# Altium footprint library Gelnar.PcbLib: 295 footprints (part 9 of 19)
Each footprint in its own frame and in the unit in brackets; x right, y up, seen from the top. Pads: shape width x height; smd on the part's side, far side on the other; paste and mask are expansions set on the pad; w line width, h text height; cw(c..) or ccw(c..) is an arc to the next point about the centre after c.
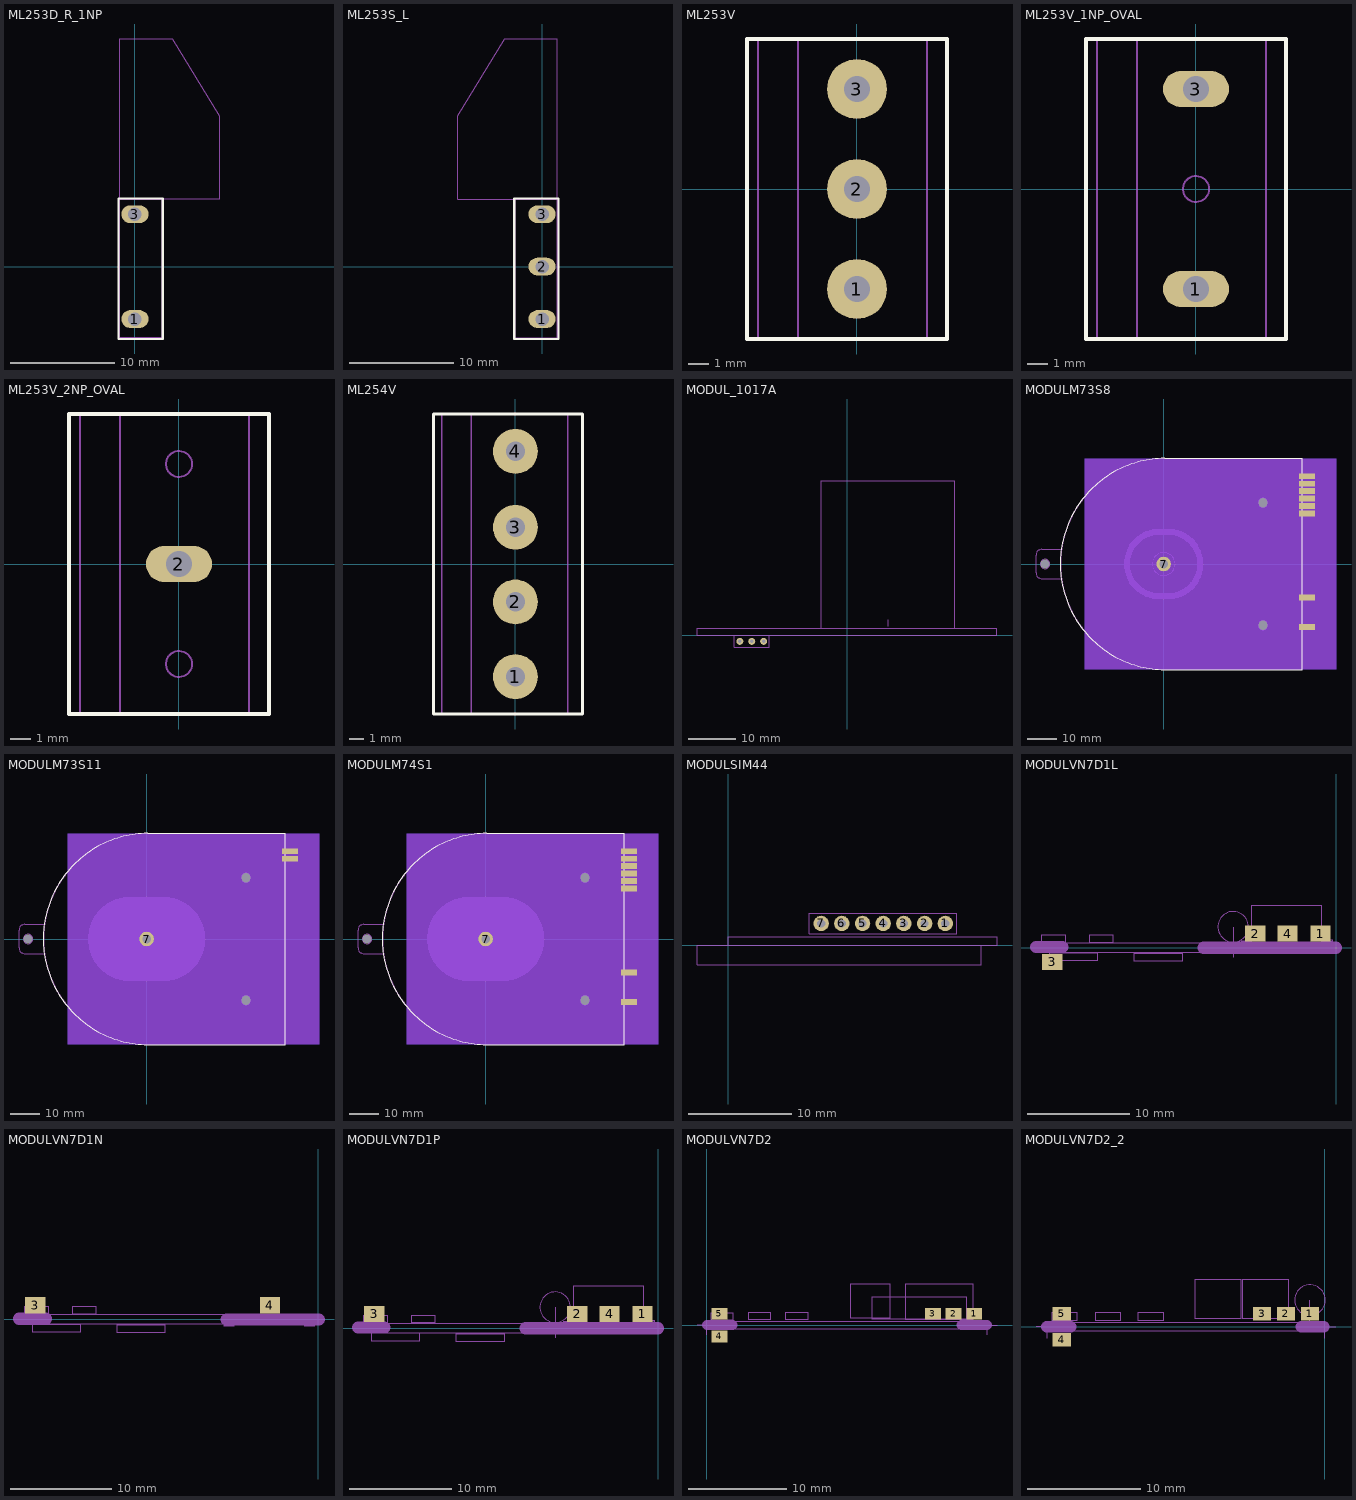
[diagram p8: the footprints below, top view; thin cyan lines are the x and y axes]

## ML253D_R_1NP [mm]
pads (2):
  oval 2.6x1.7 hole 1.3 mask+0.05: 1(0,-5) 3(0,5)
Top Overlay:
  lines w0.2: -1.55,-6.9 2.65,-6.9 2.65,6.5 -1.55,6.5 -1.55,-6.9
Mechanical 15:
  lines w0.1: -1.45,8.3 -1.45,6.4 ; -1.45,6.4 -1.45,-6.8 2.55,-6.8 2.55,6.4 -1.45,6.4 ; -1.45,6.4 -1.45,21.7 3.55,21.7 8.05,14.4 8.05,6.4 -1.45,6.4
Multi-Layer:
  text "Value" at 0.415,12.575 h0.75
Mechanical 20:
  lines w0.1: -1.55,-6.9 2.65,-6.9 2.65,6.5 -1.55,6.5 -1.55,-6.9

## ML253S_L [mm]
pads (3):
  oval 2.6x1.7 hole 1.3 mask+0.05: 1(0,-5) 2(0,0) 3(0,5)
Top Overlay:
  lines w0.2: -2.65,-6.9 -2.65,6.5 1.55,6.5 1.55,-6.9 -2.65,-6.9
Mechanical 15:
  lines w0.1: 1.45,6.4 -8.05,6.4 -8.05,14.4 -3.55,21.7 1.45,21.7 1.45,6.4 ; 1.45,6.4 1.45,-6.8 -2.55,-6.8 -2.55,6.4 1.45,6.4
Multi-Layer:
  text "Value" at -4.3,12.5 h0.75
Mechanical 20:
  lines w0.1: -2.65,-6.9 -2.65,6.5 1.55,6.5 1.55,-6.9 -2.65,-6.9
3D body "ML253-5-S-LC.stp": height 13, standoff -2.2, extent -7.976,-5.715 1.524,21.785

## ML253V [mm]
pads (3):
  round 3 hole 1.3 mask+0.1: 1(0,-5) 2(0,0) 3(0,5)
Top Overlay:
  lines w0.2: -5.5,-7.5 4.5,-7.5 4.5,7.5 -5.5,7.5 -5.5,-7.5
Mechanical 15:
  circle w0.1: c0,0 r0.65
  circle w0.1: c0,-5 r0.65
  circle w0.1: c0,5 r0.65
  lines w0.1: -4.95,-7.4 -4.95,7.5 ; -2.95,-7.5 -2.95,7.4 ; 3.5,-7.45 3.5,7.45 ; -5.5,-7.5 4.5,-7.5 4.5,7.5 -5.5,7.5 -5.5,-7.5
Mechanical 16:
  circle w0.1: c0,5 r0.65
  circle w0.1: c0,0 r0.65
  circle w0.1: c0,-5 r0.65
Multi-Layer:
  text "Value" at -1.19,1.62 h0.75

## ML253V_1NP_OVAL [mm]
pads (2):
  oval 3.3x1.8 hole 1.3 mask+0.05: 1(0,-5) 3(0,5)
Top Overlay:
  lines w0.2: -5.5,-7.5 4.5,-7.5 4.5,7.5 -5.5,7.5 -5.5,-7.5
Mechanical 15:
  circle w0.1: c0,0 r0.65
  circle w0.1: c0,-5 r0.65
  circle w0.1: c0,5 r0.65
  lines w0.1: -4.95,-7.4 -4.95,7.5 ; -2.95,-7.5 -2.95,7.4 ; 3.5,-7.45 3.5,7.45 ; -5.5,-7.5 4.5,-7.5 4.5,7.5 -5.5,7.5 -5.5,-7.5
Mechanical 16:
  circle w0.1: c0,5 r0.65
  circle w0.1: c0,0 r0.65
  circle w0.1: c0,-5 r0.65
Multi-Layer:
  text "Value" at -0.936,1.295 h0.75

## ML253V_2NP_OVAL [mm]
pads (1):
  oval 3.3x1.8 hole 1.3 mask+0.05: 2(0,0)
Top Overlay:
  lines w0.2: -5.5,-7.5 4.5,-7.5 4.5,7.5 -5.5,7.5 -5.5,-7.5
Mechanical 15:
  circle w0.1: c0,0 r0.65
  circle w0.1: c0,-5 r0.65
  circle w0.1: c0,5 r0.65
  lines w0.1: -4.95,-7.4 -4.95,7.5 ; -2.95,-7.5 -2.95,7.4 ; 3.5,-7.45 3.5,7.45 ; -5.5,-7.5 4.5,-7.5 4.5,7.5 -5.5,7.5 -5.5,-7.5
Mechanical 16:
  circle w0.1: c0,5 r0.65
  circle w0.1: c0,0 r0.65
  circle w0.1: c0,-5 r0.65
Multi-Layer:
  text "Value" at -0.936,1.295 h0.75

## ML254V [mm]
pads (4):
  round 3 hole 1.3 mask+0.1: 1(0,-7.54) 2(0,-2.54) 3(0,2.46) 4(0,7.54)
Top Overlay:
  lines w0.2: -5.5,-10.04 4.5,-10.04 4.5,10.04 -5.5,10.04 -5.5,-10.04
Mechanical 15:
  circle w0.1: c0,-2.54 r0.65
  circle w0.1: c0,-7.54 r0.65
  circle w0.1: c0,2.46 r0.65
  lines w0.1: -4.95,-9.94 -4.95,10.04 ; -2.95,-10.04 -2.95,10.04 ; 3.5,-10.04 3.5,10.04 ; -5.5,-10.04 4.5,-10.04 4.5,10.04 -5.5,10.04 -5.5,-10.04
Mechanical 16:
  circle w0.1: c0,2.46 r0.65
  circle w0.1: c0,-2.54 r0.65
  circle w0.1: c0,-7.54 r0.65
Multi-Layer:
  text "Value" at -1.19,-0.92 h0.75

## MODUL_1017A [mm]
pads (3):
  round 1.5 hole 0.8 mask+0.05: 1(-17.78,-1.27) 2(-20.32,-1.27) 3(-22.86,-1.27)
Mechanical 15:
  lines w0.1: -32,0 32,0 32,1.5 -32,1.5 -32,0 ; -24.066,-2.54 -16.637,-2.54 -16.637,0 -24.066,0 -24.066,-2.54 ; -5.487,1.5 23.013,1.5 23.013,33 -5.487,33 -5.487,1.5
Multi-Layer:
  text "Value" at 21.562,0.175 h0.75
Mechanical 19:
  lines w0.1: 8.763,1.905 8.763,3.365

## MODULM73S8 [mm]
pads (12):
  rect 5.5x2 smd mask+0.05: 1(49,17.335) 2(49,19.875) 3(49,22.415) 4(49,24.956) 5(49,27.495) 6(49,30.035) 8(49,-21.59) 9(49,-11.43)
  round 5 / inner round 3 / far side round 5 hole 3: 7(0,0)
  round 0 hole 3.2 unplated: HL1(34,21) HL2(34,-21) HL3(-40.6,0)
L1-Top Layer keep-out:
  region: -25,23 20,23 25,18 25,-18 20,-23 -25,-23
L2-Botom Layer:
  region: -5.5,14.5 5.5,14.511 6.639,14.466 7.77,14.333 8.888,14.11 9.984,13.801 11.053,13.407 12.088,12.93 13.082,12.373 14.029,11.74 14.924,11.034 15.761,10.261 16.534,9.424 17.24,8.529 17.873,7.582 18.43,6.588 18.907,5.553 19.301,4.484 19.61,3.388 19.833,2.27 19.966,1.139 20.011,0 19.966,-1.139 19.833,-2.27 19.61,-3.388 19.301,-4.484 18.907,-5.553 18.43,-6.588 17.873,-7.582 17.24,-8.529 16.534,-9.424 15.761,-10.261 14.924,-11.034 14.029,-11.74 13.082,-12.373 12.088,-12.93 11.053,-13.407 9.984,-13.801 8.888,-14.11 7.77,-14.333 6.639,-14.466 5.5,-14.511 5.5,-14.5 -5.5,-14.511 -6.639,-14.466 -7.77,-14.333 -8.888,-14.11 -9.984,-13.801 -11.053,-13.407 -12.088,-12.93 -13.082,-12.373 -14.029,-11.74 -14.924,-11.034 -15.761,-10.261 -16.534,-9.424 -17.24,-8.529 -17.873,-7.582 -18.43,-6.588 -18.907,-5.553 -19.301,-4.484 -19.61,-3.388 -19.833,-2.27 -19.966,-1.139 -20.011,0 -19.966,1.139 -19.833,2.27 -19.61,3.388 -19.301,4.484 -18.907,5.553 -18.43,6.588 -17.873,7.582 -17.24,8.529 -16.534,9.424 -15.761,10.261 -14.924,11.034 -14.029,11.74 -13.082,12.373 -12.088,12.93 -11.053,13.407 -9.984,13.801 -8.888,14.11 -7.77,14.333 -6.639,14.466 -5.5,14.511
L2-Botom Layer keep-out:
  region: -27,36 59,36 59,-36 -27,-36
  region: 37,-21 37,-20.803 36.949,-20.413 36.847,-20.034 36.696,-19.67 36.5,-19.33 36.26,-19.018 35.982,-18.74 35.67,-18.5 35.33,-18.304 34.966,-18.153 34.587,-18.051 34.197,-18 34,-18 33.803,-18 33.413,-18.051 33.034,-18.153 32.67,-18.304 32.33,-18.5 32.018,-18.74 31.74,-19.018 31.5,-19.33 31.304,-19.67 31.153,-20.034 31.051,-20.413 31,-20.803 31,-21 31,-21.197 31.051,-21.587 31.153,-21.966 31.304,-22.33 31.5,-22.67 31.74,-22.982 32.018,-23.26 32.33,-23.5 32.67,-23.696 33.034,-23.847 33.413,-23.949 33.803,-24 34,-24 34.197,-24 34.587,-23.949 34.966,-23.847 35.33,-23.696 35.67,-23.5 35.982,-23.26 36.26,-22.982 36.5,-22.67 36.696,-22.33 36.847,-21.966 36.949,-21.587 37,-21.197
Top Overlay:
  lines w0.2: 0.298,-36.2 cw(c0.803,0) 0.298,36.2 ; 0.3,-36.2 47.5,-36.2 47.5,36.2 0.3,36.2
Top Solder:
  region: -2.4,12.1 2.397,12.104 2.63,12.094 3.68,11.955 4.714,11.726 5.724,11.408 6.702,11.002 7.642,10.513 8.535,9.944 9.375,9.3 10.156,8.584 10.871,7.803 11.516,6.963 12.085,6.07 12.574,5.131 12.979,4.152 13.298,3.142 13.527,2.108 13.665,1.058 13.712,0 13.665,-1.058 13.527,-2.108 13.298,-3.142 12.979,-4.152 12.574,-5.131 12.085,-6.07 11.516,-6.963 10.871,-7.803 10.156,-8.584 9.375,-9.3 8.535,-9.944 7.642,-10.513 6.702,-11.002 5.724,-11.408 4.714,-11.726 3.68,-11.955 2.63,-12.094 2.397,-12.104 2.4,-12.1 -2.397,-12.104 -2.63,-12.094 -3.68,-11.955 -4.714,-11.726 -5.724,-11.408 -6.702,-11.002 -7.642,-10.513 -8.535,-9.944 -9.375,-9.3 -10.156,-8.584 -10.871,-7.803 -11.516,-6.963 -12.085,-6.07 -12.574,-5.131 -12.979,-4.152 -13.298,-3.142 -13.527,-2.108 -13.665,-1.058 -13.712,0 -13.665,1.058 -13.527,2.108 -13.298,3.142 -12.979,4.152 -12.574,5.131 -12.085,6.07 -11.516,6.963 -10.871,7.803 -10.156,8.584 -9.375,9.3 -8.535,9.944 -7.642,10.513 -6.702,11.002 -5.724,11.408 -4.714,11.726 -3.68,11.955 -2.63,12.094 -2.397,12.104
Bottom Solder:
  region: -5.6,14.6 5.602,14.608 6.646,14.567 7.785,14.432 8.911,14.208 10.015,13.896 11.091,13.499 12.133,13.019 13.134,12.458 14.088,11.821 14.989,11.111 15.832,10.332 16.61,9.489 17.321,8.588 17.958,7.635 18.519,6.634 18.999,5.592 19.396,4.515 19.708,3.411 19.931,2.286 20.066,1.146 20.111,0 20.066,-1.146 19.931,-2.286 19.708,-3.411 19.396,-4.515 18.999,-5.592 18.519,-6.634 17.958,-7.635 17.321,-8.588 16.61,-9.489 15.832,-10.332 14.989,-11.111 14.088,-11.821 13.134,-12.458 12.133,-13.019 11.091,-13.499 10.015,-13.896 8.911,-14.208 7.785,-14.432 6.646,-14.567 5.602,-14.608 5.6,-14.6 -5.602,-14.608 -6.646,-14.567 -7.785,-14.432 -8.911,-14.208 -10.015,-13.896 -11.091,-13.499 -12.133,-13.019 -13.134,-12.458 -14.088,-11.821 -14.989,-11.111 -15.832,-10.332 -16.61,-9.489 -17.321,-8.588 -17.958,-7.635 -18.519,-6.634 -18.999,-5.592 -19.396,-4.515 -19.708,-3.411 -19.931,-2.286 -20.066,-1.146 -20.111,0 -20.066,1.146 -19.931,2.286 -19.708,3.411 -19.396,4.515 -18.999,5.592 -18.519,6.634 -17.958,7.635 -17.321,8.588 -16.61,9.489 -15.832,10.332 -14.989,11.111 -14.088,11.821 -13.134,12.458 -12.133,13.019 -11.091,13.499 -10.015,13.896 -8.911,14.208 -7.785,14.432 -6.646,14.567 -5.602,14.608
Mechanical 15:
  circle w0.1: c-40.6,0 r1.6
  circle w0.1: c34,-21 r1.6
  circle w0.1: c34,21 r1.6
  lines w0.1: -43.7,-3 -43.7,3 ; -43.7,-2.999 ccw(c-41.75,-3.05) -41.702,-5 ; -43.7,3.002 cw(c-41.75,3.05) -41.699,5 ; -41.7,-5 -34.7,-5 ; -41.7,5 -34.7,5 ; -2.009,-11.9 cw(c-1.593,0) -1.988,11.9 ; -2,-11.9 2,-11.9 ; -2,11.9 2,11.9 ; 0.3,-36.1 47.4,-36.1 47.4,36.1 0.3,36.1 ; 0.304,-36.1 cw(c0.808,0) 0.304,36.1 ; 1.988,-11.9 ccw(c1.593,0) 2.009,11.9
Mechanical 16:
  circle w0.1: c-40.6,0 r1.6
  circle w0.1: c34,-21 r1.6
  circle w0.1: c34,21 r1.6
  lines w0.1: -2.009,-11.9 cw(c-1.593,0) -1.988,11.9 ; -2,-11.9 2,-11.9 ; -2,11.9 2,11.9 ; 1.988,-11.9 ccw(c1.593,0) 2.009,11.9
  lines w2: -2.011,10.9 ccw(c-1.592,0) -1.992,-10.9 ; -2,-10.9 2,-10.9 ; -2,10.9 2,10.9 ; 1.993,10.9 cw(c1.593,0) 2.012,-10.9
Multi-Layer:
  text "Value" at 23.865,-2.225 h0.75
Mechanical 19:
  lines w0.1: -1.016,0 0,0 0,-1.016
Mechanical 20:
  circle w0.1: c0,0 r3.9
3D body "011 Krab snimace leden 2021 uprava.stp": height 20.7, standoff -0.1, extent -43.627,-36.133 47.334,36.09

## MODULM73S11 [mm]
pads (6):
  rect 5.5x2 smd mask+0.05: 1(49,27.495) 2(49,30.035)
  round 5 / inner round 3 / far side round 5 hole 3: 7(0,0)
  round 0 hole 3.2 unplated: HL1(34,21) HL2(34,-21) HL3(-40.6,0)
L1-Top Layer keep-out:
  region: -25,23 20,23 25,18 25,-18 20,-23 -25,-23
L2-Botom Layer keep-out:
  region: 37,-21 37,-20.803 36.949,-20.413 36.847,-20.034 36.696,-19.67 36.5,-19.33 36.26,-19.018 35.982,-18.74 35.67,-18.5 35.33,-18.304 34.966,-18.153 34.587,-18.051 34.197,-18 34,-18 33.803,-18 33.413,-18.051 33.034,-18.153 32.67,-18.304 32.33,-18.5 32.018,-18.74 31.74,-19.018 31.5,-19.33 31.304,-19.67 31.153,-20.034 31.051,-20.413 31,-20.803 31,-21 31,-21.197 31.051,-21.587 31.153,-21.966 31.304,-22.33 31.5,-22.67 31.74,-22.982 32.018,-23.26 32.33,-23.5 32.67,-23.696 33.034,-23.847 33.413,-23.949 33.803,-24 34,-24 34.197,-24 34.587,-23.949 34.966,-23.847 35.33,-23.696 35.67,-23.5 35.982,-23.26 36.26,-22.982 36.5,-22.67 36.696,-22.33 36.847,-21.966 36.949,-21.587 37,-21.197
  region: -27,36 59,36 59,-36 -27,-36
Top Overlay:
  lines w0.2: 0.298,-36.2 cw(c0.803,0) 0.298,36.2 ; 0.3,-36.2 47.5,-36.2 47.5,36.2 0.3,36.2
Top Solder:
  region: -2.4,12.1 2.397,12.104 2.63,12.094 3.68,11.955 4.714,11.726 5.724,11.408 6.702,11.002 7.642,10.513 8.535,9.944 9.375,9.3 10.156,8.584 10.871,7.803 11.516,6.963 12.085,6.07 12.574,5.131 12.979,4.152 13.298,3.142 13.527,2.108 13.665,1.058 13.712,0 13.665,-1.058 13.527,-2.108 13.298,-3.142 12.979,-4.152 12.574,-5.131 12.085,-6.07 11.516,-6.963 10.871,-7.803 10.156,-8.584 9.375,-9.3 8.535,-9.944 7.642,-10.513 6.702,-11.002 5.724,-11.408 4.714,-11.726 3.68,-11.955 2.63,-12.094 2.397,-12.104 2.4,-12.1 -2.397,-12.104 -2.63,-12.094 -3.68,-11.955 -4.714,-11.726 -5.724,-11.408 -6.702,-11.002 -7.642,-10.513 -8.535,-9.944 -9.375,-9.3 -10.156,-8.584 -10.871,-7.803 -11.516,-6.963 -12.085,-6.07 -12.574,-5.131 -12.979,-4.152 -13.298,-3.142 -13.527,-2.108 -13.665,-1.058 -13.712,0 -13.665,1.058 -13.527,2.108 -13.298,3.142 -12.979,4.152 -12.574,5.131 -12.085,6.07 -11.516,6.963 -10.871,7.803 -10.156,8.584 -9.375,9.3 -8.535,9.944 -7.642,10.513 -6.702,11.002 -5.724,11.408 -4.714,11.726 -3.68,11.955 -2.63,12.094 -2.397,12.104
Bottom Solder:
  region: -5.6,14.6 5.602,14.608 6.646,14.567 7.785,14.432 8.911,14.208 10.015,13.896 11.091,13.499 12.133,13.019 13.134,12.458 14.088,11.821 14.989,11.111 15.832,10.332 16.61,9.489 17.321,8.588 17.958,7.635 18.519,6.634 18.999,5.592 19.396,4.515 19.708,3.411 19.931,2.286 20.066,1.146 20.111,0 20.066,-1.146 19.931,-2.286 19.708,-3.411 19.396,-4.515 18.999,-5.592 18.519,-6.634 17.958,-7.635 17.321,-8.588 16.61,-9.489 15.832,-10.332 14.989,-11.111 14.088,-11.821 13.134,-12.458 12.133,-13.019 11.091,-13.499 10.015,-13.896 8.911,-14.208 7.785,-14.432 6.646,-14.567 5.602,-14.608 5.6,-14.6 -5.602,-14.608 -6.646,-14.567 -7.785,-14.432 -8.911,-14.208 -10.015,-13.896 -11.091,-13.499 -12.133,-13.019 -13.134,-12.458 -14.088,-11.821 -14.989,-11.111 -15.832,-10.332 -16.61,-9.489 -17.321,-8.588 -17.958,-7.635 -18.519,-6.634 -18.999,-5.592 -19.396,-4.515 -19.708,-3.411 -19.931,-2.286 -20.066,-1.146 -20.111,0 -20.066,1.146 -19.931,2.286 -19.708,3.411 -19.396,4.515 -18.999,5.592 -18.519,6.634 -17.958,7.635 -17.321,8.588 -16.61,9.489 -15.832,10.332 -14.989,11.111 -14.088,11.821 -13.134,12.458 -12.133,13.019 -11.091,13.499 -10.015,13.896 -8.911,14.208 -7.785,14.432 -6.646,14.567 -5.602,14.608
Mechanical 4:
  region: -5.5,14.5 5.5,14.511 6.639,14.466 7.77,14.333 8.888,14.11 9.984,13.801 11.053,13.407 12.088,12.93 13.082,12.373 14.029,11.74 14.924,11.034 15.761,10.261 16.534,9.424 17.24,8.529 17.873,7.582 18.43,6.588 18.907,5.553 19.301,4.484 19.61,3.388 19.833,2.27 19.966,1.139 20.011,0 19.966,-1.139 19.833,-2.27 19.61,-3.388 19.301,-4.484 18.907,-5.553 18.43,-6.588 17.873,-7.582 17.24,-8.529 16.534,-9.424 15.761,-10.261 14.924,-11.034 14.029,-11.74 13.082,-12.373 12.088,-12.93 11.053,-13.407 9.984,-13.801 8.888,-14.11 7.77,-14.333 6.639,-14.466 5.5,-14.511 5.5,-14.5 -5.5,-14.511 -6.639,-14.466 -7.77,-14.333 -8.888,-14.11 -9.984,-13.801 -11.053,-13.407 -12.088,-12.93 -13.082,-12.373 -14.029,-11.74 -14.924,-11.034 -15.761,-10.261 -16.534,-9.424 -17.24,-8.529 -17.873,-7.582 -18.43,-6.588 -18.907,-5.553 -19.301,-4.484 -19.61,-3.388 -19.833,-2.27 -19.966,-1.139 -20.011,0 -19.966,1.139 -19.833,2.27 -19.61,3.388 -19.301,4.484 -18.907,5.553 -18.43,6.588 -17.873,7.582 -17.24,8.529 -16.534,9.424 -15.761,10.261 -14.924,11.034 -14.029,11.74 -13.082,12.373 -12.088,12.93 -11.053,13.407 -9.984,13.801 -8.888,14.11 -7.77,14.333 -6.639,14.466 -5.5,14.511
Mechanical 15:
  circle w0.1: c34,21 r1.6
  circle w0.1: c34,-21 r1.6
  circle w0.1: c-40.6,0 r1.6
  lines w0.1: -43.7,-3 -43.7,3 ; -43.7,-2.999 ccw(c-41.75,-3.05) -41.702,-5 ; -43.7,3.002 cw(c-41.75,3.05) -41.699,5 ; -41.7,-5 -34.7,-5 ; -41.7,5 -34.7,5 ; -2.009,-11.9 cw(c-1.593,0) -1.988,11.9 ; -2,-11.9 2,-11.9 ; -2,11.9 2,11.9 ; 0.3,-36.1 47.4,-36.1 47.4,36.1 0.3,36.1 ; 0.304,-36.1 cw(c0.808,0) 0.304,36.1 ; 1.988,-11.9 ccw(c1.593,0) 2.009,11.9
Mechanical 16:
  circle w0.1: c34,21 r1.6
  circle w0.1: c34,-21 r1.6
  circle w0.1: c-40.6,0 r1.6
  lines w0.1: -2.009,-11.9 cw(c-1.593,0) -1.988,11.9 ; -2,-11.9 2,-11.9 ; -2,11.9 2,11.9 ; 1.988,-11.9 ccw(c1.593,0) 2.009,11.9
  lines w2: -2.011,10.9 ccw(c-1.592,0) -1.992,-10.9 ; -2,-10.9 2,-10.9 ; -2,10.9 2,10.9 ; 1.993,10.9 cw(c1.593,0) 2.012,-10.9
Mechanical 19:
  lines w0.1: -1.016,0 0,0 0,-1.016
Mechanical 20:
  circle w0.1: c0,0 r3.9
3D body "011 Krab snimace leden 2021 uprava.stp": height 20.7, standoff -0.1, extent -43.627,-36.133 47.334,36.09

## MODULM74S1 [mm]
pads (12):
  rect 5.5x2 smd mask+0.05: 1(49,17.335) 2(49,19.875) 3(49,22.415) 4(49,24.956) 5(49,27.495) 6(49,30.035) 8(49,-21.59) 9(49,-11.43)
  round 5 / inner round 3 / far side round 5 hole 3: 7(0,0)
  round 0 hole 3.2 unplated: HL1(34,21) HL2(34,-21) HL3(-40.6,0)
L1-Top Layer keep-out:
  region: -25,23 20,23 25,18 25,-18 20,-23 -25,-23
L2-Botom Layer keep-out:
  region: -27,36 59,36 59,-36 -27,-36
  region: 37,-21 37,-20.803 36.949,-20.413 36.847,-20.034 36.696,-19.67 36.5,-19.33 36.26,-19.018 35.982,-18.74 35.67,-18.5 35.33,-18.304 34.966,-18.153 34.587,-18.051 34.197,-18 34,-18 33.803,-18 33.413,-18.051 33.034,-18.153 32.67,-18.304 32.33,-18.5 32.018,-18.74 31.74,-19.018 31.5,-19.33 31.304,-19.67 31.153,-20.034 31.051,-20.413 31,-20.803 31,-21 31,-21.197 31.051,-21.587 31.153,-21.966 31.304,-22.33 31.5,-22.67 31.74,-22.982 32.018,-23.26 32.33,-23.5 32.67,-23.696 33.034,-23.847 33.413,-23.949 33.803,-24 34,-24 34.197,-24 34.587,-23.949 34.966,-23.847 35.33,-23.696 35.67,-23.5 35.982,-23.26 36.26,-22.982 36.5,-22.67 36.696,-22.33 36.847,-21.966 36.949,-21.587 37,-21.197
Top Overlay:
  lines w0.2: 0.298,-36.2 cw(c0.803,0) 0.298,36.2 ; 0.3,-36.2 47.5,-36.2 47.5,36.2 0.3,36.2
Top Solder:
  region: -2.4,12.1 2.397,12.104 2.63,12.094 3.68,11.955 4.714,11.726 5.724,11.408 6.702,11.002 7.642,10.513 8.535,9.944 9.375,9.3 10.156,8.584 10.871,7.803 11.516,6.963 12.085,6.07 12.574,5.131 12.979,4.152 13.298,3.142 13.527,2.108 13.665,1.058 13.712,0 13.665,-1.058 13.527,-2.108 13.298,-3.142 12.979,-4.152 12.574,-5.131 12.085,-6.07 11.516,-6.963 10.871,-7.803 10.156,-8.584 9.375,-9.3 8.535,-9.944 7.642,-10.513 6.702,-11.002 5.724,-11.408 4.714,-11.726 3.68,-11.955 2.63,-12.094 2.397,-12.104 2.4,-12.1 -2.397,-12.104 -2.63,-12.094 -3.68,-11.955 -4.714,-11.726 -5.724,-11.408 -6.702,-11.002 -7.642,-10.513 -8.535,-9.944 -9.375,-9.3 -10.156,-8.584 -10.871,-7.803 -11.516,-6.963 -12.085,-6.07 -12.574,-5.131 -12.979,-4.152 -13.298,-3.142 -13.527,-2.108 -13.665,-1.058 -13.712,0 -13.665,1.058 -13.527,2.108 -13.298,3.142 -12.979,4.152 -12.574,5.131 -12.085,6.07 -11.516,6.963 -10.871,7.803 -10.156,8.584 -9.375,9.3 -8.535,9.944 -7.642,10.513 -6.702,11.002 -5.724,11.408 -4.714,11.726 -3.68,11.955 -2.63,12.094 -2.397,12.104
Bottom Solder:
  region: -5.6,14.6 5.602,14.608 6.646,14.567 7.785,14.432 8.911,14.208 10.015,13.896 11.091,13.499 12.133,13.019 13.134,12.458 14.088,11.821 14.989,11.111 15.832,10.332 16.61,9.489 17.321,8.588 17.958,7.635 18.519,6.634 18.999,5.592 19.396,4.515 19.708,3.411 19.931,2.286 20.066,1.146 20.111,0 20.066,-1.146 19.931,-2.286 19.708,-3.411 19.396,-4.515 18.999,-5.592 18.519,-6.634 17.958,-7.635 17.321,-8.588 16.61,-9.489 15.832,-10.332 14.989,-11.111 14.088,-11.821 13.134,-12.458 12.133,-13.019 11.091,-13.499 10.015,-13.896 8.911,-14.208 7.785,-14.432 6.646,-14.567 5.602,-14.608 5.6,-14.6 -5.602,-14.608 -6.646,-14.567 -7.785,-14.432 -8.911,-14.208 -10.015,-13.896 -11.091,-13.499 -12.133,-13.019 -13.134,-12.458 -14.088,-11.821 -14.989,-11.111 -15.832,-10.332 -16.61,-9.489 -17.321,-8.588 -17.958,-7.635 -18.519,-6.634 -18.999,-5.592 -19.396,-4.515 -19.708,-3.411 -19.931,-2.286 -20.066,-1.146 -20.111,0 -20.066,1.146 -19.931,2.286 -19.708,3.411 -19.396,4.515 -18.999,5.592 -18.519,6.634 -17.958,7.635 -17.321,8.588 -16.61,9.489 -15.832,10.332 -14.989,11.111 -14.088,11.821 -13.134,12.458 -12.133,13.019 -11.091,13.499 -10.015,13.896 -8.911,14.208 -7.785,14.432 -6.646,14.567 -5.602,14.608
Mechanical 4:
  region: -5.5,14.5 5.5,14.511 6.639,14.466 7.77,14.333 8.888,14.11 9.984,13.801 11.053,13.407 12.088,12.93 13.082,12.373 14.029,11.74 14.924,11.034 15.761,10.261 16.534,9.424 17.24,8.529 17.873,7.582 18.43,6.588 18.907,5.553 19.301,4.484 19.61,3.388 19.833,2.27 19.966,1.139 20.011,0 19.966,-1.139 19.833,-2.27 19.61,-3.388 19.301,-4.484 18.907,-5.553 18.43,-6.588 17.873,-7.582 17.24,-8.529 16.534,-9.424 15.761,-10.261 14.924,-11.034 14.029,-11.74 13.082,-12.373 12.088,-12.93 11.053,-13.407 9.984,-13.801 8.888,-14.11 7.77,-14.333 6.639,-14.466 5.5,-14.511 5.5,-14.5 -5.5,-14.511 -6.639,-14.466 -7.77,-14.333 -8.888,-14.11 -9.984,-13.801 -11.053,-13.407 -12.088,-12.93 -13.082,-12.373 -14.029,-11.74 -14.924,-11.034 -15.761,-10.261 -16.534,-9.424 -17.24,-8.529 -17.873,-7.582 -18.43,-6.588 -18.907,-5.553 -19.301,-4.484 -19.61,-3.388 -19.833,-2.27 -19.966,-1.139 -20.011,0 -19.966,1.139 -19.833,2.27 -19.61,3.388 -19.301,4.484 -18.907,5.553 -18.43,6.588 -17.873,7.582 -17.24,8.529 -16.534,9.424 -15.761,10.261 -14.924,11.034 -14.029,11.74 -13.082,12.373 -12.088,12.93 -11.053,13.407 -9.984,13.801 -8.888,14.11 -7.77,14.333 -6.639,14.466 -5.5,14.511
Mechanical 15:
  circle w0.1: c-40.6,0 r1.6
  circle w0.1: c34,-21 r1.6
  circle w0.1: c34,21 r1.6
  lines w0.1: -43.7,-3 -43.7,3 ; -43.7,-2.999 ccw(c-41.75,-3.05) -41.702,-5 ; -43.7,3.002 cw(c-41.75,3.05) -41.699,5 ; -41.7,-5 -34.7,-5 ; -41.7,5 -34.7,5 ; -2.009,-11.9 cw(c-1.593,0) -1.988,11.9 ; -2,-11.9 2,-11.9 ; -2,11.9 2,11.9 ; 0.3,-36.1 47.4,-36.1 47.4,36.1 0.3,36.1 ; 0.304,-36.1 cw(c0.808,0) 0.304,36.1 ; 1.988,-11.9 ccw(c1.593,0) 2.009,11.9
Mechanical 16:
  circle w0.1: c-40.6,0 r1.6
  circle w0.1: c34,-21 r1.6
  circle w0.1: c34,21 r1.6
  lines w0.1: -2.009,-11.9 cw(c-1.593,0) -1.988,11.9 ; -2,-11.9 2,-11.9 ; -2,11.9 2,11.9 ; 1.988,-11.9 ccw(c1.593,0) 2.009,11.9
  lines w2: -2.011,10.9 ccw(c-1.592,0) -1.992,-10.9 ; -2,-10.9 2,-10.9 ; -2,10.9 2,10.9 ; 1.993,10.9 cw(c1.593,0) 2.012,-10.9
Mechanical 19:
  lines w0.1: -1.016,0 0,0 0,-1.016
Mechanical 20:
  circle w0.1: c0,0 r3.9
3D body "011 Krab snimace leden 2021 uprava.stp": height 20.7, standoff -0.1, extent -43.627,-36.133 47.334,36.09

## MODULSIM44 [mm]
pads (7):
  round 1.5 hole 0.8 mask+0.05: 1(21,2.1) 2(19,2.1) 3(17,2.1) 4(15,2.1) 5(13,2.1) 6(11,2.1) 7(9,2.1)
Mechanical 15:
  lines w0.1: -3,-1.9 24.5,-1.9 24.5,0 -3,0 -3,-1.9 ; 0,0 26,0 26,0.8 0,0.8 0,0
Mechanical 16:
  lines w0.1: 7.85,1.1 22.1,1.1 22.1,3.1 7.85,3.1 7.85,1.1
Multi-Layer:
  text "Value" at 21.562,0.175 h0.75

## MODULVN7D1L [mm]
pads (4):
  rect 2x1.6 smd mask+0.05: 1(-1.524,1.397) 2(-7.918,1.397) 3(-27.877,-1.397) 4(-4.763,1.397)
Mechanical 15:
  circle w0.1: c-10.1,2.054 r1.5
  lines w0.1: -10.096,-0.953 -10.096,2.032 ; -29.4,-0.5 0,-0.5 0,0.5 -29.4,0.5 -29.4,-0.5 ; -28.892,0.508 -26.604,0.508 -26.604,1.27 -28.892,1.27 -28.892,0.508 ; -28.13,-1.27 -23.43,-1.27 -23.43,-0.47 -28.13,-0.47 -28.13,-1.27 ; -24.194,0.508 -21.905,0.508 -21.905,1.27 -24.194,1.27 -24.194,0.508 ; -19.812,-1.333 -15.112,-1.333 -15.112,-0.533 -19.812,-0.533 -19.812,-1.333 ; -9.271,0.508 -8.319,0.508 -8.319,0.699 -9.271,0.699 -9.271,0.508 ; -8.3,0.586 -1.4,0.586 -1.4,4.112 -8.3,4.112 -8.3,0.586 ; -1.333,0.572 -0.381,0.572 -0.381,0.762 -1.333,0.762 -1.333,0.572
Mechanical 16:
  lines w1.2: -29.464,0.064 -26.868,0.064 ; -13.018,0 0,0

## MODULVN7D1N [mm]
pads (2):
  rect 2x1.6 smd mask+0.05: 3(-27.877,1.397) 4(-4.763,1.397)
Mechanical 15:
  lines w0.1: -29.4,-0.5 0,-0.5 0,0.5 -29.4,0.5 -29.4,-0.5 ; -28.892,0.508 -26.604,0.508 -26.604,1.27 -28.892,1.27 -28.892,0.508 ; -28.13,-1.27 -23.43,-1.27 -23.43,-0.47 -28.13,-0.47 -28.13,-1.27 ; -24.194,0.508 -21.905,0.508 -21.905,1.27 -24.194,1.27 -24.194,0.508 ; -19.812,-1.333 -15.112,-1.333 -15.112,-0.533 -19.812,-0.533 -19.812,-1.333 ; -9.271,-0.699 -8.319,-0.699 -8.319,-0.508 -9.271,-0.508 -9.271,-0.699 ; -1.333,-0.699 -0.381,-0.699 -0.381,-0.508 -1.333,-0.508 -1.333,-0.699
Mechanical 16:
  lines w1.2: -29.464,0.064 -26.812,0.064 ; -9.017,0 0.064,0

## MODULVN7D1P [mm]
pads (4):
  rect 2x1.6 smd mask+0.05: 1(-1.524,1.397) 2(-7.918,1.397) 3(-27.877,1.397) 4(-4.763,1.397)
Mechanical 15:
  circle w0.1: c-10.1,2.054 r1.5
  lines w0.1: -10.096,-0.953 -10.096,2.032 ; -29.4,-0.5 0,-0.5 0,0.5 -29.4,0.5 -29.4,-0.5 ; -28.892,0.508 -26.604,0.508 -26.604,1.27 -28.892,1.27 -28.892,0.508 ; -28.13,-1.27 -23.43,-1.27 -23.43,-0.47 -28.13,-0.47 -28.13,-1.27 ; -24.194,0.508 -21.905,0.508 -21.905,1.27 -24.194,1.27 -24.194,0.508 ; -19.812,-1.333 -15.112,-1.333 -15.112,-0.533 -19.812,-0.533 -19.812,-1.333 ; -9.271,0.508 -8.319,0.508 -8.319,0.699 -9.271,0.699 -9.271,0.508 ; -8.3,0.586 -1.4,0.586 -1.4,4.112 -8.3,4.112 -8.3,0.586 ; -1.333,0.572 -0.381,0.572 -0.381,0.762 -1.333,0.762 -1.333,0.572
Mechanical 16:
  lines w1.2: -29.464,0.064 -26.868,0.064 ; -13.018,0 0,0

## MODULVN7D2 [mm]
pads (5):
  rect 1.6x1.2 smd mask+0.05: 1(27.1,1.15) 2(25,1.15) 3(22.9,1.15) 4(1.27,-1.15) 5(1.27,1.15)
Mechanical 15:
  lines w0.1: 0,-0.4 28.4,-0.4 28.4,0.4 0,0.4 0,-0.4 ; 0.45,0.508 2.6,0.508 2.6,1.27 0.45,1.27 0.45,0.508 ; 4.25,0.516 6.4,0.516 6.4,1.278 4.25,1.278 4.25,0.516 ; 8,0.516 10.2,0.516 10.2,1.278 8,1.278 8,0.516 ; 14.605,0.699 18.542,0.699 18.542,4.191 14.605,4.191 14.605,0.699 ; 16.764,0.572 26.289,0.572 26.289,2.857 16.764,2.857 16.764,0.572 ; 20.088,0.593 26.988,0.593 26.988,4.119 20.088,4.119 20.088,0.593
Mechanical 16:
  lines w1: 0,0 2.6,0 ; 25.8,0 28.4,0
Mechanical 19:
  lines w0.1: -1,0 0,0 0,-1 ; 28.4,-1 28.4,0 29.4,0

## MODULVN7D2_2 [mm]
pads (5):
  rect 1.6x1.2 smd mask+0.05: 1(-1.3,1.15) 2(-3.4,1.15) 3(-5.5,1.15) 4(-23.13,-1.15) 5(-23.13,1.15)
Mechanical 15:
  circle w0.1: c-1.302,2.349 r1.35
  lines w0.1: -1.365,0.381 -1.365,2.349 ; -24.4,-0.4 0,-0.4 0,0.4 -24.4,0.4 -24.4,-0.4 ; -23.95,0.508 -21.8,0.508 -21.8,1.27 -23.95,1.27 -23.95,0.508 ; -20.15,0.516 -18,0.516 -18,1.278 -20.15,1.278 -20.15,0.516 ; -16.4,0.516 -14.2,0.516 -14.2,1.278 -16.4,1.278 -16.4,0.516 ; -11.4,0.699 -7.4,0.699 -7.4,4.191 -11.4,4.191 -11.4,0.699 ; -7.209,0.699 -3.209,0.699 -3.209,4.191 -7.209,4.191 -7.209,0.699
Mechanical 16:
  lines w1: -24.45,0 -22.35,0 ; -2.05,0 -0.05,0
Mechanical 19:
  lines w0.1: -25.4,0 -24.4,0 -24.4,-1 ; 0,-1 0,0 1,0